# Altium footprint library Drivers.PcbLib: 3 footprints
Each footprint in its own frame and in the unit in brackets; x right, y up, seen from the top. Pads: shape width x height; smd on the part's side, far side on the other; paste and mask are expansions set on the pad; w line width, h text height; cw(c..) or ccw(c..) is an arc to the next point about the centre after c.
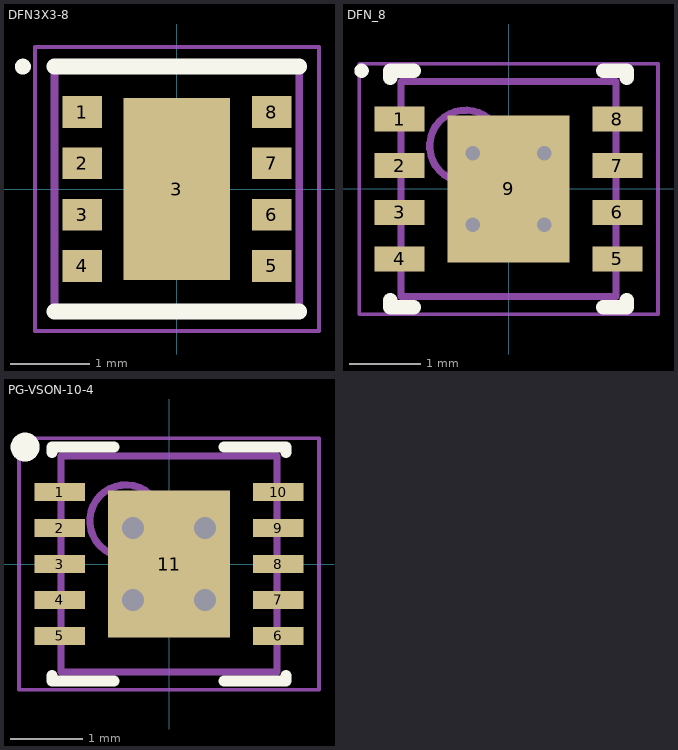
[diagram p0: the footprints below, top view; thin cyan lines are the x and y axes]

## DFN3X3-8 [mm]
pads (9):
  rect 0.5x0.4 smd mask+0.05: 1(-1.2,0.975) 2(-1.2,0.325) 3(-1.2,-0.325) 4(-1.2,-0.975) 5(1.2,-0.975) 6(1.2,-0.325) 7(1.2,0.325) 8(1.2,0.975)
  rect 1.35x2.3 smd mask+0.05: 3(0,0)
Top Overlay:
  circle w0.1: c-1.95,1.55 r0.05
  lines w0.2: -1.55,-1.55 1.55,-1.55 ; -1.55,1.55 1.55,1.55
Mechanical 13:
  lines w0.1: -1.55,-1.55 1.55,-1.55 1.55,1.55 -1.55,1.55 -1.55,-1.55
Mechanical 15:
  lines w0.05: -1.8,-1.8 1.8,-1.8 1.8,1.8 -1.8,1.8 -1.8,-1.8
  lines w0.1: -0.5,0 0.5,0 ; 0,-0.5 0,0.5
3D body: height 0.8, standoff 0, extent -1.55,-1.55 1.55,1.55

## DFN_8 [mm]
pads (9):
  rect 0.7x0.35 smd: 1(-1.52,0.975) 2(-1.52,0.325) 3(-1.52,-0.325) 4(-1.52,-0.975) 5(1.52,-0.975) 6(1.52,-0.325) 7(1.52,0.325) 8(1.52,0.975)
  rect 1.7x2.05 smd: 9(0,0)
via 0.5,-0.5 diameter 0.5 hole 0.2
via -0.5,-0.5 diameter 0.5 hole 0.2
via 0.5,0.5 diameter 0.5 hole 0.2
via -0.5,0.5 diameter 0.5 hole 0.2
Top Overlay:
  circle w0.1: c-2.05,1.65 r0.05
  lines w0.2: -1.65,-1.55 -1.65,-1.65 -1.32,-1.65 ; -1.65,1.55 -1.65,1.65 -1.32,1.65 ; 1.32,-1.65 1.65,-1.65 1.65,-1.55 ; 1.32,1.65 1.65,1.65 1.65,1.55
Mechanical 13:
  circle w0.1: c-0.6,0.6 r0.5
  lines w0.1: -1.5,-1.5 1.5,-1.5 1.5,1.5 -1.5,1.5 -1.5,-1.5
Mechanical 15:
  lines w0.05: -2.085,-1.75 2.085,-1.75 2.085,1.75 -2.085,1.75 -2.085,-1.75
  lines w0.1: -0.5,0 0.5,0 ; 0,-0.5 0,0.5
3D body "SON65P300X90_HS-9N.step": height 0.9, standoff 0, extent -1.5,-1.5 1.5,1.5

## PG-VSON-10-4 [mm] "SON, 10-Leads, Body 3,00x3,00mm, Pitch 0,50mm, Thermal Pad 2,05x1,70mm, IPC Medium Density"
height 0.9
pads (11):
  rect 0.7x0.25 smd mask+0.05: 1(-1.52,1) 2(-1.52,0.5) 3(-1.52,0) 4(-1.52,-0.5) 5(-1.52,-1) 6(1.52,-1) 7(1.52,-0.5) 8(1.52,0) 9(1.52,0.5) 10(1.52,1)
  rect 1.7x2.05 smd mask+0.05: 11(0,0)
via 0.5,0.5 diameter 0.6 hole 0.3
via -0.5,0.5 diameter 0.6 hole 0.3
via -0.5,-0.5 diameter 0.6 hole 0.3
via 0.5,-0.5 diameter 0.6 hole 0.3
Top Overlay:
  circle w0.3: c-2,1.625 r0.05
  lines w0.15: -1.625,-1.55 -1.625,-1.625 -0.765,-1.625 ; -1.625,1.55 -1.625,1.625 -0.765,1.625 ; 0.765,-1.625 1.625,-1.625 1.625,-1.55 ; 0.765,1.625 1.625,1.625 1.625,1.55
Top Assembly:
  circle w0.1: c-0.6,0.6 r0.5
  lines w0.1: -1.5,-1.5 -1.5,1.5 1.5,1.5 1.5,-1.5 -1.5,-1.5
Top Courtyard:
  lines w0.05: -2.085,-1.75 -2.085,1.75 2.085,1.75 2.085,-1.75 -2.085,-1.75
  lines w0.1: -0.5,0 0.5,0 ; 0,-0.5 0,0.5
3D body "PG-VSON-10-4.step": height 0.9, standoff 0, extent -1.5,-1.5 1.5,1.5